# Altium footprint library ELSMTD10h13.5.PcbLib: 1 footprints
Each footprint in its own frame and in the unit in brackets; x right, y up, seen from the top. Pads: shape width x height; smd on the part's side, far side on the other; paste and mask are expansions set on the pad; w line width, h text height; cw(c..) or ccw(c..) is an arc to the next point about the centre after c.
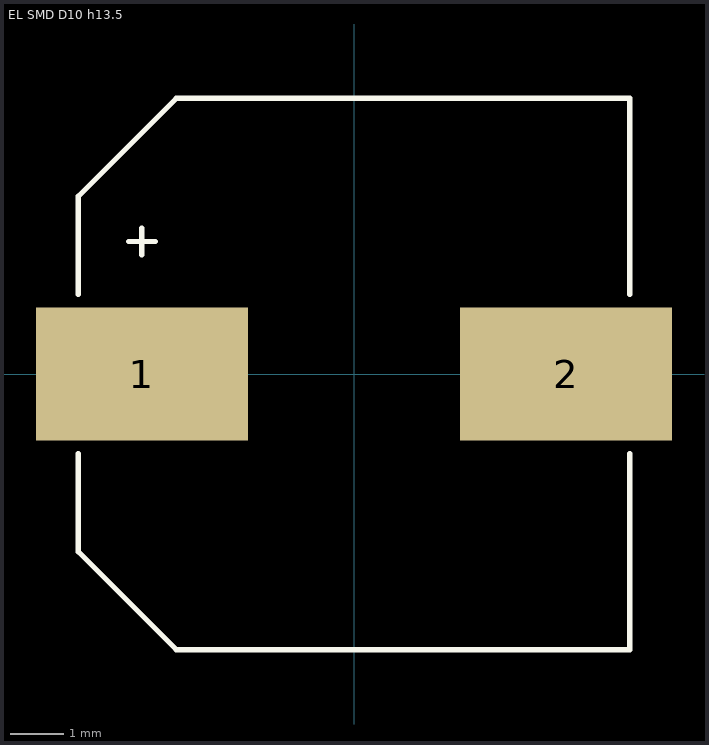
[diagram p0: the footprint, top view; thin cyan lines are the x and y axes]

## EL SMD D10 h13.5 [mm]
height 13.5
pads (2):
  rect 4x2.5 smd mask+0.102: 1(-4,0) 2(4,0)
Top Overlay:
  lines w0.1: -5.2,-1.5 -5.2,-3.35 -3.35,-5.2 5.2,-5.2 5.2,-1.5 ; -5.2,1.5 -5.2,3.35 -3.35,5.2 5.2,5.2 5.2,1.5 ; -4.25,2.5 -3.75,2.5 ; -4,2.25 -4,2.75
3D body "Cap EL SMD D10 h13.5.STEP": height 13.8, standoff 0, extent -5.5,-5.15 5.5,5.15